# Altium schematic symbol library Schlib1.SchLib: 12 symbols
Pins are listed as number, name and electrical type; pins without a type are passive.

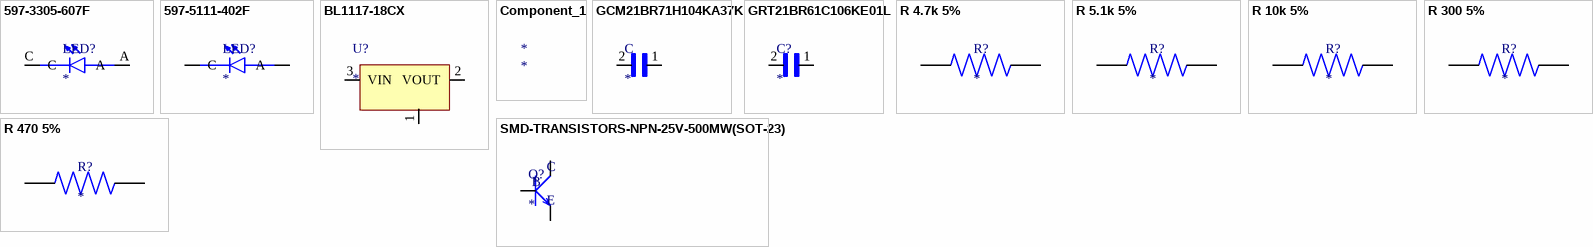
[diagram p0: symbols 597-3305-607F to SMD-TRANSISTORS-NPN-25V-500MW(SOT-23)]

## 597-3305-607F
designator LED?
LED Uni-Color Green 4-Pin Chip 0805 T/R; MP: 597-3305-607F; Availability: Unavailable; Value: *; Price: None; Package: None
footprint LEDC2012X70N
pins: A, C

## 597-5111-402F
designator LED?
SMD LED 0805 R SAMPLE STRIP | Dialight 597-5111-402F; Package: 0805 Dialight; Value: *; MF: Dialight; MP: 597-5111-402F
footprint LEDC2012X70N
pins: A, C

## BL1117-18CX
designator U?
footprint SOT-223-2 (SOT-223/SC-73; 4 Leads; Body 6.7 x 7.3 mm, inc. leads (LxW max))
pins: 1 GND, 2 VOUT, 3 VIN

## Component_1
designator *

## GCM21BR71H104KA37K
designator C
SMD Capacitor X7R(EIA) with Capacitance: 0.10uF Tol. 10%. Rated Voltage: 50Vdc; MP: GCM21BR71H104KA37K; MF: Murata; Value: *; Price: None; Availability: Good; Package: 0805 Murata
footprint CAPC2012X135N
pins: 1, 2

## GRT21BR61C106KE01L
designator C?
SMD Capacitor X5R(EIA) with Capacitance: 10uF Tol. 10%. Rated Voltage: 16Vdc; MF: Murata; MP: GRT21BR61C106KE01L; Price: None; Value: *; Availability: Good; Package: 0805 Murata
footprint CAPC2012X135N
pins: 1, 2

## R 4.7k 5%
designator R?
Value: 5.1K; Availability: Unavailable; Price: None; Package: 0805
footprint R0805
pins: 1, 2

## R 5.1k 5%
designator R?
Value: 5.1K; Availability: Unavailable; Price: None; Package: 0805
footprint R0805
pins: 1, 2

## R 10k 5%
designator R?
Value: 5.1K; Availability: Unavailable; Price: None; Package: 0805
footprint R0805
pins: 1, 2

## R 300 5%
designator R?
Value: 5.1K; Availability: Unavailable; Price: None; Package: 0805
footprint R0805
pins: 1, 2

## R 470 5%
designator R?
Value: 5.1K; Availability: Unavailable; Price: None; Package: 0805
footprint R0805
pins: 1, 2

## SMD-TRANSISTORS-NPN-25V-500MW(SOT-23)
designator Q?
Bipolar (BJT) Transistor NPN 25 V 500 mA 150MHz 300 mW Surface Mount SOT-23; MF: UMW; MP: S8050; Purchase-URL: https://pricing.snapeda.com/search/part/S8050/?ref=eda; Check_prices: https://www.snapeda.com/parts/S8050/Umwelt+Sensor+Teknik/view-part/?ref=eda; SnapEDA_Link: https://www.snapeda.com/parts/S8050/Umwelt+Sensor+Teknik/view-part/?ref=snap; Price: None; Availability: In Stock; Package: None; Value: *
footprint SOT-23
pins: 1 B, 2 E, 3 C